# Altium footprint library IRM10-12.PcbLib: 1 footprints
Each footprint in its own frame and in the unit in brackets; x right, y up, seen from the top. Pads: shape width x height; smd on the part's side, far side on the other; paste and mask are expansions set on the pad; w line width, h text height; cw(c..) or ccw(c..) is an arc to the next point about the centre after c.
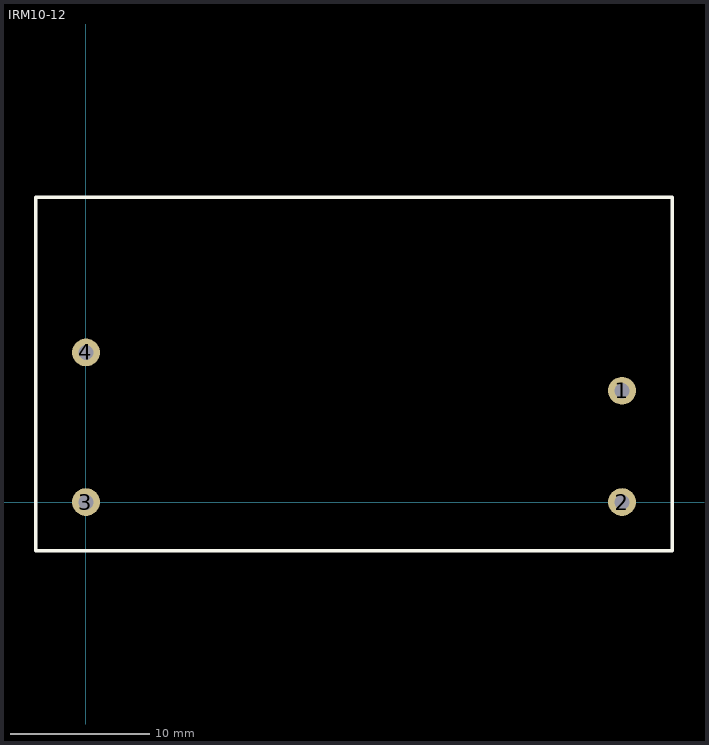
[diagram p0: the footprint, top view; thin cyan lines are the x and y axes]

## IRM10-12 [mm]
pads (4):
  round 2 hole 1.1: 1(38.5,8) 2(38.5,0) 3(0,0) 4(0,10.75)
Top Overlay:
  lines w0.254: -3.6,-3.5 -3.6,21.9 42.1,21.9 42.1,-3.5 -3.6,-3.5
3D body: height 21.5, standoff 0, extent -3.6,-3.5 42.1,21.9
3D body: height 0, standoff -3.5, extent -0.5,-0.5 0.5,0.5
3D body: height 0, standoff -3.5, extent -0.5,10.25 0.5,11.25
3D body: height 0, standoff -3.5, extent 38,7.5 39,8.5
3D body: height 0, standoff -3.5, extent 38,-0.5 39,0.5